# Altium footprint library My_Library.PcbLib: 118 footprints (part 5 of 8)
Each footprint in its own frame and in the unit in brackets; x right, y up, seen from the top. Pads: shape width x height; smd on the part's side, far side on the other; paste and mask are expansions set on the pad; w line width, h text height; cw(c..) or ccw(c..) is an arc to the next point about the centre after c.
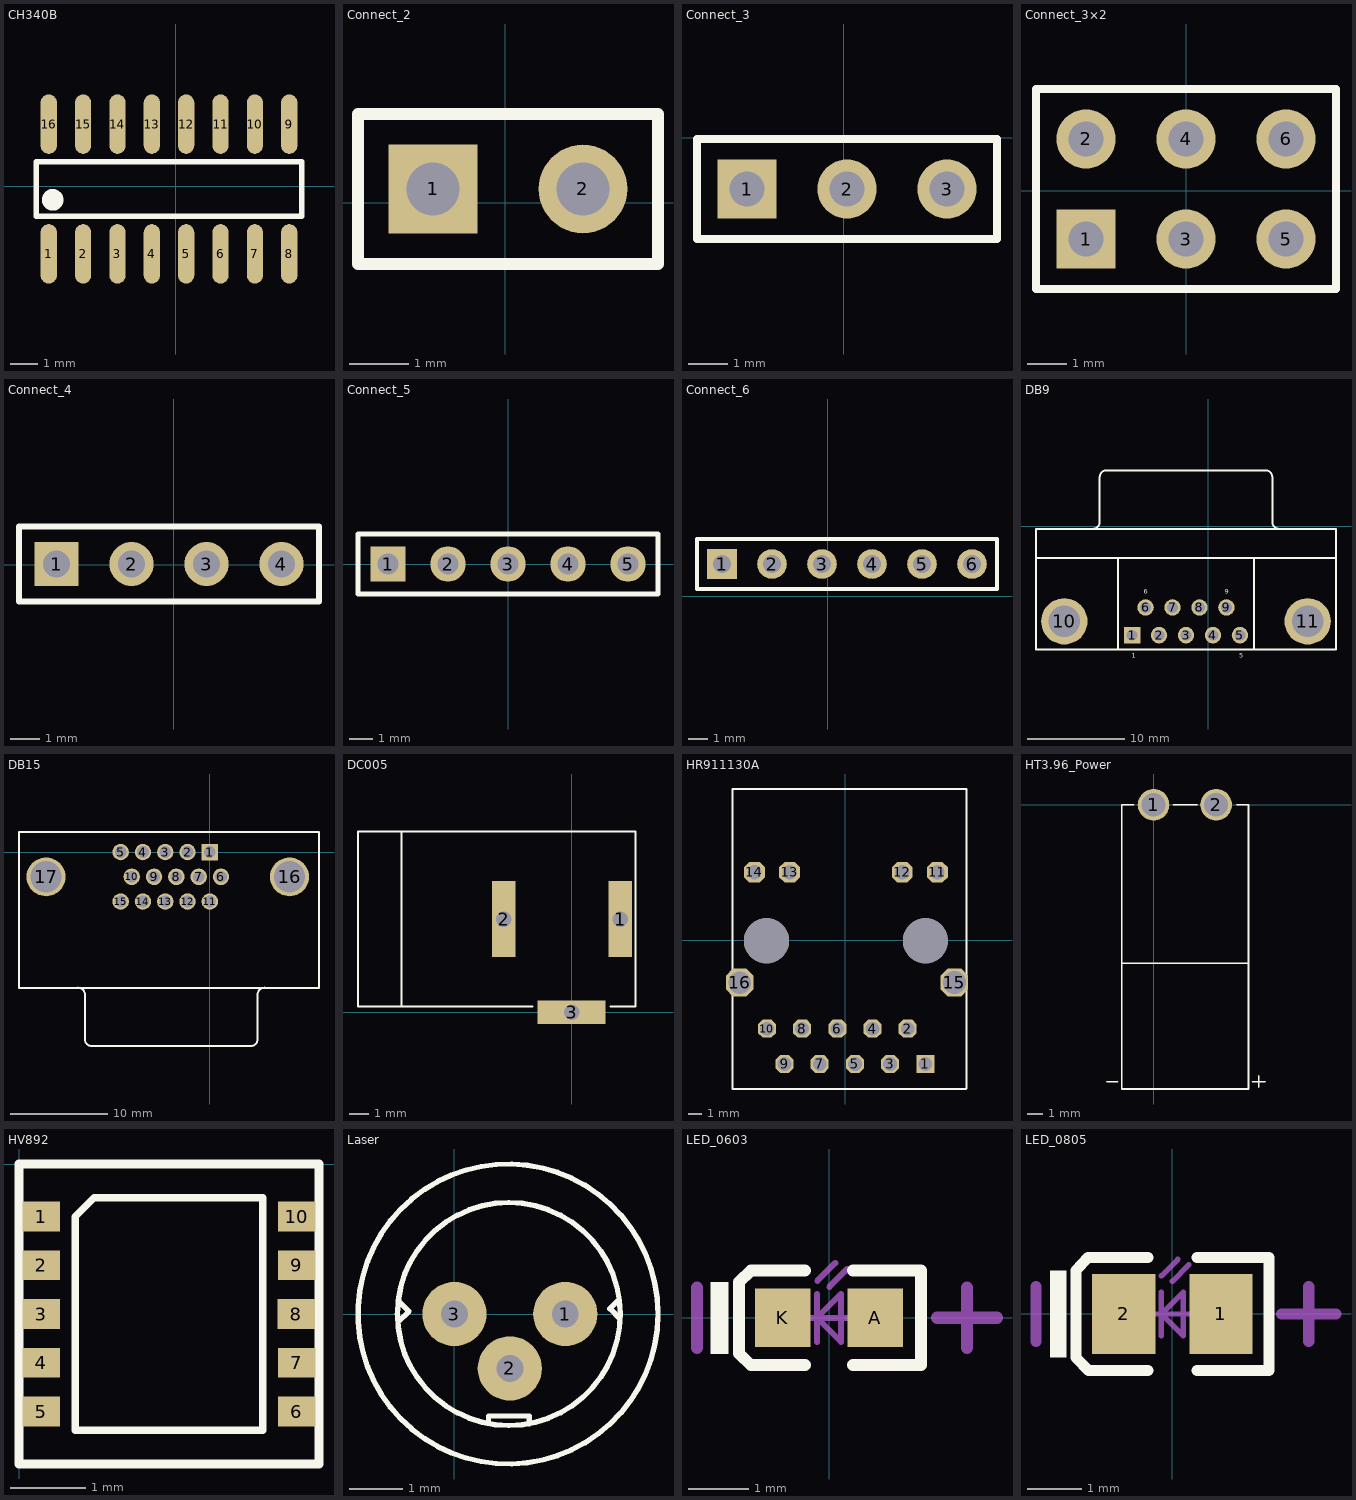
[diagram p4: the footprints below, top view; thin cyan lines are the x and y axes]

## CH340B [mm]
pads (16):
  oval 0.6x2.2 smd: 1(-4.695,-2.5) 2(-3.425,-2.5) 3(-2.155,-2.5) 4(-0.885,-2.5) 5(0.385,-2.5) 6(1.655,-2.5) 7(2.925,-2.5) 8(4.195,-2.5) 9(4.195,2.3) 10(2.925,2.3) 11(1.655,2.3) 12(0.385,2.3) 13(-0.885,2.3) 14(-2.155,2.3) 15(-3.425,2.3) 16(-4.695,2.3)
Top Overlay:
  circle w0.4: c-4.55,-0.5 r0.2
  lines w0.2: -5.15,-1.1 4.65,-1.1 4.65,0.9 -5.15,0.9 -5.15,-1.1
3D body: height 1.8, standoff 0, extent -5.35,-2.1 4.85,1.9

## Connect_2 [mm]
pads (2):
  rect 1.5x1.5 hole 0.9: 1(-1.224,0.236)
  round 1.5 hole 0.9: 2(1.316,0.236)
Top Overlay:
  lines w0.2: -2.494,-1.034 2.586,-1.034 2.586,1.506 -2.494,1.506 -2.494,-1.034

## Connect_3 [mm]
pads (3):
  rect 1.5x1.5 hole 0.9: 1(-2.455,-1.306)
  round 1.5 hole 0.9: 2(0.085,-1.306) 3(2.625,-1.306)
Top Overlay:
  lines w0.2: -3.725,-2.576 -3.725,-0.036 3.895,-0.036 3.895,-2.576 -3.725,-2.576

## Connect_3×2 [mm]
pads (6):
  rect 1.5x1.5 hole 0.9: 1(-2.545,-1.229)
  round 1.5 hole 0.9: 2(-2.545,1.311) 3(-0.005,-1.229) 4(-0.005,1.311) 5(2.535,-1.229) 6(2.535,1.311)
Top Overlay:
  lines w0.2: -1.063,-2.499 3.805,-2.499 ; 3.805,-2.499 -3.815,-2.499 -3.815,2.581 3.805,2.581 3.805,-2.499

## Connect_4 [mm]
pads (4):
  rect 1.5x1.5 hole 0.9: 1(-3.975,0.017)
  round 1.5 hole 0.9: 2(-1.435,0.017) 3(1.105,0.017) 4(3.645,0.017)
Top Overlay:
  lines w0.2: -5.245,-1.253 4.915,-1.253 4.915,1.287 -5.245,1.287 -5.245,-1.253

## Connect_5 [mm]
pads (5):
  rect 1.5x1.5 hole 0.9: 1(-5.085,0.002)
  round 1.5 hole 0.9: 2(-2.545,0.002) 3(-0.005,0.002) 4(2.535,0.002) 5(5.075,0.002)
Top Overlay:
  lines w0.2: -6.355,-1.268 -6.355,1.272 6.345,1.272 6.345,-1.268 -6.355,-1.268

## Connect_6 [mm]
pads (6):
  rect 1.5x1.5 hole 0.9: 1(-5.37,1.648)
  round 1.5 hole 0.9: 2(-2.83,1.648) 3(-0.29,1.648) 4(2.25,1.648) 5(4.79,1.648) 6(7.33,1.648)
Top Overlay:
  lines w0.2: -6.64,0.378 -6.64,2.918 8.6,2.918 8.6,0.378 -6.64,0.378

## DB9 [mm]
pads (11):
  rect 1.69x1.69 hole 1.09: 1(-7.829,-11.188)
  round 1.69 hole 1.09: 2(-5.059,-11.188) 3(-2.289,-11.188) 4(0.481,-11.188) 5(3.251,-11.188) 6(-6.444,-8.348) 7(-3.674,-8.348) 8(-0.904,-8.348) 9(1.866,-8.348)
  round 4.76 hole 3.26: 10(-14.784,-9.768) 11(10.206,-9.768)
Top Overlay:
  lines w0.2: -17.689,-3.268 13.111,-3.268 ; -11.849,-0.263 ccw(c-11.849,0.432) -11.154,0.432 -11.154,5.032 ; -11.149,5.037 cw(c-10.454,5.037) -10.454,5.732 5.876,5.732 cw(c5.876,5.037) 6.571,5.037 ; -9.289,-12.668 -9.289,-3.268 ; 4.711,-12.668 4.711,-3.268 ; 6.576,5.032 6.576,0.432 ccw(c7.271,0.432) 7.271,-0.263 ; -17.689,-12.668 13.111,-12.668 13.111,-0.268 -17.689,-0.268 -17.689,-12.668
  text "6" at -6.65,-6.95 h0.5
  text "9" at 1.7,-6.95 h0.5
  text "5" at 3.2,-13.5 h0.5
  text "1" at -7.85,-13.5 h0.5

## DB15 [mm]
pads (17):
  rect 1.69x1.69 hole 1.2: 1(0,0)
  round 1.69 hole 1.2: 2(-2.29,0) 3(-4.58,0) 4(-6.87,0) 5(-9.16,0) 6(1.143,-2.54) 7(-1.147,-2.54) 8(-3.437,-2.54) 9(-5.727,-2.54) 10(-8.017,-2.54) 11(0,-5.08) 12(-2.29,-5.08) 13(-4.58,-5.08) 14(-6.87,-5.08) 15(-9.16,-5.08)
  round 4 hole 3.2: 16(8.183,-2.54) 17(-16.817,-2.54)
Top Overlay:
  lines w0.2: -13.525,-13.919 cw(c-13.525,-14.614) -12.83,-14.614 -12.83,-19.214 ; -12.825,-19.219 ccw(c-12.13,-19.219) -12.13,-19.914 4.2,-19.914 ccw(c4.2,-19.219) 4.895,-19.219 ; 4.9,-19.214 4.9,-14.614 cw(c5.595,-14.614) 5.595,-13.919 ; 11.175,-13.934 -19.594,-13.934 -19.594,-10.336 -19.594,2.064 11.206,2.064 11.206,-10.336 11.206,-13.965
3D body: height 10.5, standoff 0, extent -13.208,-19.914 5.486,-13.919
3D body: height 12.5, standoff 0, extent -19.609,-13.97 11.252,2.108

## DC005 [mm]
pads (3):
  rect 1.2x3.9 hole 0.8 square: 1(2.5,4.8) 2(-3.5,4.8)
  rect 3.5x1.2 hole 0.8 square: 3(0,0)
Top Overlay:
  lines w0.1: -8.75,0.3 -8.75,9.3 ; -2,0.3 -3.5,0.3 -11,0.3 -11,9.3 3.3,9.3 3.3,7 3.3,0.3 2,0.3
3D body: height 11, standoff 0, extent -11,0.3 3.3,9.3

## HR911130A [mm]
pads (18):
  rect 1.3x1.3 hole 1: 1(5.779,-8.922)
  oct 1.3x1.3 hole 1: 2(4.508,-6.382) 3(3.238,-8.922) 4(1.968,-6.382) 5(0.699,-8.922) 6(-0.572,-6.382) 7(-1.841,-8.922) 8(-3.111,-6.382) 9(-4.381,-8.922) 10(-5.651,-6.382)
  oct 1.5x1.5 hole 1.02: 11(6.654,4.909) 12(4.114,4.909) 13(-4.014,4.909) 14(-6.554,4.909)
  oct 2x2 hole 1.67: 15(7.874,-3.048)
  oct 2x2 hole 1.63: 16(-7.62,-3.048)
  round 3.25 hole 3.25 unplated: ""(-5.683,-0.032) ""(5.779,-0.032)
Top Overlay:
  lines w0.152: -8.128,-10.731 -8.128,-9.95 -8.128,7.576 -8.128,10.477 -8.128,10.922 8.255,10.922 8.763,10.922 8.763,-10.477 8.763,-10.668 8.7,-10.731 8.509,-10.731 8.255,-10.731 -8.128,-10.731
3D body: height 13.5, standoff 0, extent -8.128,-10.795 8.763,10.922

## HT3.96_Power [mm]
pads (2):
  round 2 hole 1.5: 1(0,0) 2(3.95,0)
Top Overlay:
  lines w0.1: -2.95,-17.5 -2.25,-17.5 ; -2,-10 6,-10 ; -1.25,0 -2,0 -2,-17.95 6,-17.95 6,0 5.25,0 ; 1.25,0 2.75,0 ; 6.25,-17.5 7.05,-17.5 ; 6.65,-17.85 6.65,-17.1
3D body: height 7, standoff 0, extent -2,-10 6,0
3D body: height 10, standoff 0, extent -2,-17.95 6,-10

## HV892 [mm]
pads (10):
  rect 0.5x0.4 smd: 1(0.3,-0.7) 2(0.3,-1.35) 3(0.3,-2) 4(0.3,-2.65) 5(0.3,-3.3) 6(3.7,-3.3) 7(3.7,-2.65) 8(3.7,-2) 9(3.7,-1.35) 10(3.7,-0.7)
Top Overlay:
  lines w0.1: 1,-0.45 1.375,-0.45 2.625,-0.45 3.25,-0.45 3.25,-3.55 0.75,-3.55 0.75,-0.7 1,-0.45 ; 1,-0.45 1,-0.45
  lines w0.12: 0,-4 4,-4 4,0 0,0 0,-4
3D body: height 0.8, standoff 0, extent 0,-4 4,0

## Laser [mm]
pads (3):
  round 1.2 hole 0.5: 1(2.07,0) 2(1.035,-1.016) 3(0,0)
Top Overlay:
  circle w0.1: c1,0 r2.8
  circle w0.1: c1.016,0 r2.08
  lines w0.1: -1.05,-0.15 -0.85,0.05 -1.05,0.25 ; 0.635,-2.032 0.635,-1.905 1.397,-1.905 1.397,-2.053 ; 3.05,0.25 2.9,0.1 3.09,-0.09
3D body: height 4, standoff 0, extent -1.8,-2.8 3.8,2.8

## LED_0603 [mm]
pads (2):
  rect 0.93x0.98 smd: A(0.77,0) K(-0.77,0)
Top Overlay:
  rectangle: -1.975,-0.6 -1.675,0.6
  lines w0.2: -0.4,-0.79 -1.3,-0.79 -1.5,-0.597 -1.5,0.597 -1.3,0.79 -0.4,0.79 ; 0.4,-0.79 1.535,-0.79 1.535,0.79 0.4,0.79
Mechanical 13:
  lines w0.1: -0.4,0 0.4,0 ; -0.2,-0.4 -0.2,0.4 ; -0.195,0.617 0.105,0.917 ; 0.005,0.517 0.305,0.817 ; -0.2,0 0.2,0.4 0.2,-0.4 -0.2,0
Mechanical 15:
  lines w0.203: -2.2,-0.5 -2.2,0.5 ; 1.8,0 2.8,0 ; 2.3,-0.5 2.3,0.5
3D body "User Library-LED_0603_R.STEP": height 0.6, standoff 0, extent -0.8,-0.4 0.8,0.4

## LED_0805 [mm]
pads (2):
  rect 1.16x1.47 smd: 1(0.89,0) 2(-0.89,0)
Top Overlay:
  rectangle: -2.245,-0.8 -1.945,0.8
  lines w0.2: -0.45,-1.035 -1.535,-1.035 -1.77,-0.8 -1.77,0.8 -1.55,1.035 -0.45,1.035 ; 0.45,-1.035 1.77,-1.035 1.77,1.035 0.45,1.035
Mechanical 13:
  lines w0.1: -0.4,0 0.4,0 ; -0.2,-0.4 -0.2,0.4 ; -0.2,0.7 0.1,1 ; 0,0.6 0.3,0.9 ; -0.2,0 0.2,-0.4 0.2,0.4 -0.2,0
Mechanical 15:
  lines w0.203: -2.5,-0.5 -2.5,0.5 ; 2,0 3,0 ; 2.5,-0.5 2.5,0.5
3D body "User Library-led_0805.step": height 1.1, standoff 0, extent -1.01,-0.625 1.01,0.625